# Altium integrated library Xilinx Virtex-E.IntLib: 288 symbols (part 54 of 73)
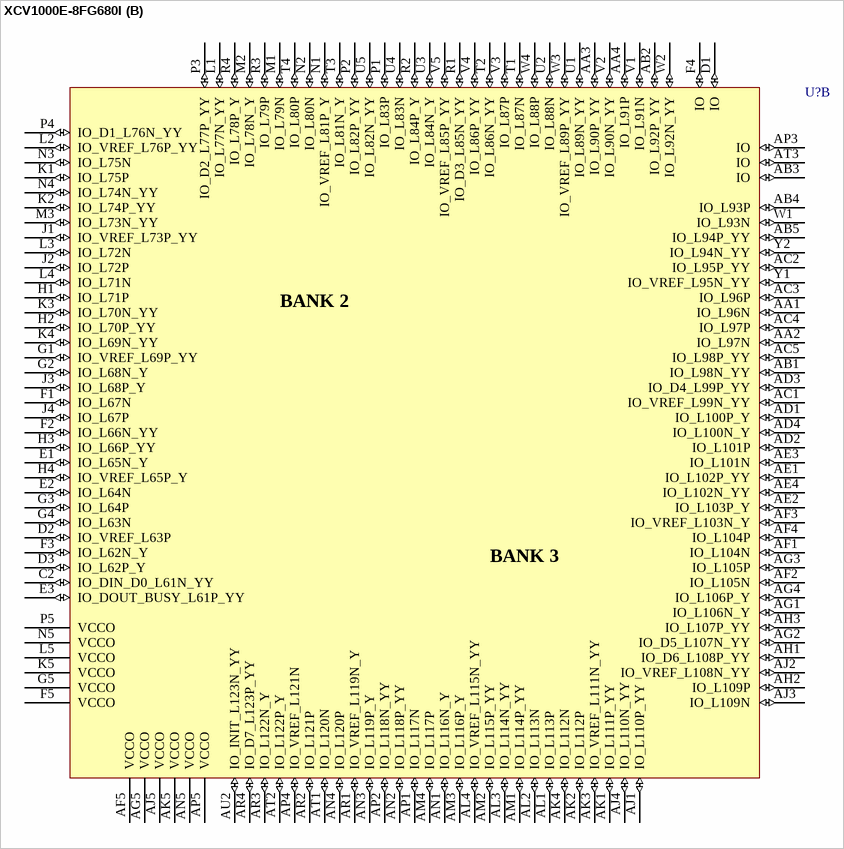
[diagram p442: symbol XCV1000E-8FG680I]

## XCV1000E-8FG680I
designator U?
Virtex-E 1.8V FPGA, 680-Ball FBGA, Industrial Grade; PackageDocument: ver1.1, Apr-2001; Note: Solder pads are defined by the copper, i.e. non-soldermask defined (NSMD); Published: 19-Sep-2001; LatestRevisionDate: 17-Jul-2002; LatestRevisionNote: Re-released for DXP Platform.; DatasheetDocument: Mar-2003; PackageReference: FG680; Publisher: Altium Limited
footprint FG680 (680-Ball Fine Pitch Ball Grid Array (FG680))
3D model XCV1000E-FG680 (680-Ball Fine Pitch Ball Grid Array (FG680))
signal-integrity model XCV1000E_FG680 (Virtex-E)
part A pins: A4 IO_L59P_Y (io), A5 IO_L57P_YY (io), A6 IO_L55P_Y (io), A7 IO_L53P_YY (io), A8 IO_L52N_YY (io), A9 IO_L50N_Y (io), A10 IO_L48N_YY (io), A11 IO_L46N_Y (io), A12 IO_L43P_Y (io), A13 IO_L41P_YY (io), A14 IO_L40N_YY (io), A15 IO_L38N_Y (io), A16 IO_L35P_Y (io), A17 IO_L33P_YY (io), A18 IO_L31P_Y (io), A19 IO_LVDS_DLL_L29P (io), A20 GCK3 (in), A21 IO_L27P_YY (io), A22 IO_L25P_Y (io), A23 IO_L23P_YY (io), A24 IO_L22N_YY (io), A25 IO_L21N_Y (io), A26 IO_VREF_L19N_YY (io), A27 IO_L16N_Y (io), A28 IO_L14P_YY (io), A29 IO_L13N_Y (io), A30 IO_L12N_Y (io), A31 IO_L10N_YY (io), A32 IO_L9N_Y (io), A33 IO_VREF_L7N_YY (io), A34 IO_L4P (io), A35 IO_L2P_YY (io), A36 IO_L0P_Y (io), B4 IO_WRITE_L60N_YY (io), B5 IO_VREF_L58P_Y (io), B6 IO_VREF_L56P_YY (io), B7 IO_L54P_Y (io), B8 IO_VREF_L52P_YY (io), B9 IO_L51N_Y (io), B10 IO_L49N_YY (io), B11 IO_L47N_Y (io), B12 IO_L45N_YY (io), B13 IO_L42P_Y (io), B14 IO_VREF_L40P_YY (io), B15 IO_L39N_Y (io), B16 IO_L37N_YY (io), B17 IO_L34P_Y (io), B18 IO_VREF_L32P_YY (io), B19 IO_L30P_Y (io), B20 IO_L28P_Y (io), B21 IO_L26P_YY (io), B22 IO_L24P_Y (io), B23 IO_L22P_YY (io), B24 IO_L24N_Y (io), B25 IO_L20N_Y (io), B26 IO_L17P_Y (io), B27 IO_L15P_Y (io), B28 IO_VREF_L14N_YY (io), B29 IO_L13P_Y (io), B30 IO_VREF_L11N_YY (io), B31 IO_L8P_Y (io), B32 IO_L8N_Y (io), B33 IO_L5P_Y (io), B34 IO_L3P_YY (io), B35 IO_L1P_Y (io), B36 IO (io), C5 IO (io), C6 IO_L58N_Y (io), C7 IO_L56N_YY (io), C8 IO_L54N_Y (io), C9 IO_L51P_Y (io), C10 IO_L49P_YY (io), C11 IO_L47P_Y (io), C12 IO_L46P_Y (io), C13 IO_L44P_YY (io), C14 IO_L43N_Y (io), C15 IO_L41N_YY (io), C16 IO_L38P_Y (io), C17 IO_L36N_YY (io), C18 IO_L33N_YY (io), C19 IO_L31N_Y (io), C21 IO_L30N_Y (io), C22 IO_LVDS_DLL_L29N (io), C23 IO_VREF_L27N_YY (io), C24 IO_VREF_L23N_YY (io), C25 IO_L20P_Y (io), C26 IO_L18P_YY (io), C27 IO_L17N_YY (io), C28 IO_L15N_YY (io), C29 IO_L12P_Y (io), C30 IO_L10P_YY (io), C31 IO_L7P_YY (io), C32 IO_L6N_YY (io), C33 IO_L4N (io), C34 IO_L2N_YY (io), C35 IO_L0N_Y (io), D5 IO_CS_L60P_YY (io), D6 IO_L59N_Y (io), D7 IO_L57N_YY (io), D8 IO_L55N_Y (io), D9 IO_L53N_YY (io), D10 IO_L50P_Y (io), D11 IO_VREF_L48P_YY (io), D13 IO_VREF_L45P_YY (io), D14 IO_L44N_YY (io), D15 IO_L42N_Y (io), D16 IO_L39P_Y (io), D17 IO_VREF_L36P_YY (io), D18 IO_L34N_Y (io), D19 IO_L32N_YY (io), D21 GCK2 (in), D22 IO (io), D23 IO_L26N_YY (io), D24 IO_L21P_Y (io), D25 IO_L19P_YY (io), D26 IO_L18N_YY (io), D27 IO_L16N_Y (io), D29 IO_L11P_YY (io), D30 IO_L9P_Y (io), D31 IO_L6P_YY (io), D32 IO_L5N_Y (io), D33 IO_VREF_L3N_YY (io), D34 IO_VREF_L1N_Y (io), D35 IO (io), E6 VCCO (power), E7 VCCO (power), E10 VCCO (power), E11 VCCO (power), E13 VCCO (power), E14 VCCO (power), E17 IO_L37P_YY (io), E18 IO_L35N_Y (io), E22 IO_L28N_Y (io), E23 IO_L25N_Y (io), E26 VCCO (power), E27 VCCO (power), E29 VCCO (power), E30 VCCO (power), E33 VCCO (power), E34 VCCO (power)
part B pins: AA1 IO_L96N (io), AA2 IO_L97N (io), AA3 IO_L90P_YY (io), AA4 IO_L91P (io), AB1 IO_L98N_YY (io), AB2 IO_L92P_YY (io), AB3 IO (io), AB4 IO_L93P (io), AB5 IO_L94P_YY (io), AC1 IO_VREF_L99N_YY (io), AC2 IO_L95P_YY (io), AC3 IO_L96P (io), AC4 IO_L97P (io), AC5 IO_L98P_YY (io), AD1 IO_L100P_Y (io), AD2 IO_L101P (io), AD3 IO_D4_L99P_YY (io), AD4 IO_L100N_Y (io), AE1 IO_L102P_YY (io), AE2 IO_L103P_Y (io), AE3 IO_L101N (io), AE4 IO_L102N_YY (io), AF1 IO_L104N (io), AF2 IO_L105N (io), AF3 IO_VREF_L103N_Y (io), AF4 IO_L104P (io), AF5 VCCO (power), AG1 IO_L106N_Y (io), AG2 IO_D5_L107N_YY (io), AG3 IO_L105P (io), AG4 IO_L106P_Y (io), AG5 VCCO (power), AH1 IO_D6_L108P_YY (io), AH2 IO_L109P (io), AH3 IO_L107P_YY (io), AJ1 IO_L110P_YY (io), AJ2 IO_VREF_L108N_YY (io), AJ3 IO_L109N (io), AJ4 IO_L110N_YY (io), AJ5 VCCO (power), AK1 IO_L111P_YY (io), AK2 IO_L112P (io), AK3 IO_VREF_L111N_YY (io), AK4 IO_L112N (io), AK5 VCCO (power), AL1 IO_L113P (io), AL2 IO_L113N (io), AL3 IO_L114N_YY (io), AL4 IO_VREF_L115N_YY (io), AM1 IO_L114P_YY (io), AM2 IO_L115P_YY (io), AM3 IO_L116P_Y (io), AM4 IO_L117P (io), AN1 IO_L116N_Y (io), AN2 IO_L118P_YY (io), AN3 IO_L119P_Y (io), AN4 IO_L120P (io), AN5 VCCO (power), AP1 IO_L117N (io), AP2 IO_L118N_YY (io), AP3 IO (io), AP4 IO_VREF_L121N (io), AP5 VCCO (power), AR1 IO_VREF_L119N_Y (io), AR2 IO_L121P (io), AR3 IO_L122N_Y (io), AR4 IO_D7_L123P_YY (io), AT1 IO_L120N (io), AT2 IO_L122P_Y (io), AT3 IO (io), AU2 IO_INIT_L123N_YY (io), C2 IO_DIN_D0_L61N_YY (io), D1 IO (io), D2 IO_VREF_L63P (io), D3 IO_L62P_Y (io), E1 IO_L65N_Y (io), E2 IO_L64N (io), E3 IO_DOUT_BUSY_L61P_YY (io), F1 IO_L67N (io), F2 IO_L66N_YY (io), F3 IO_L62N_Y (io), F4 IO (io), F5 VCCO (power), G1 IO_VREF_L69P_YY (io), G2 IO_L68N_Y (io), G3 IO_L64P (io), G4 IO_L63N (io), G5 VCCO (power), H1 IO_L71P (io), H2 IO_L70P_YY (io), H3 IO_L66P_YY (io), H4 IO_VREF_L65P_Y (io), J1 IO_VREF_L73P_YY (io), J2 IO_L72P (io), J3 IO_L68P_Y (io), J4 IO_L67P (io), K1 IO_L75P (io), K2 IO_L74P_YY (io), K3 IO_L70N_YY (io), K4 IO_L69N_YY (io), K5 VCCO (power), L1 IO_L77N_YY (io), L2 IO_VREF_L76P_YY (io), L3 IO_L72N (io), L4 IO_L71N (io), L5 VCCO (power), M1 IO_L79N (io), M2 IO_L78N_Y (io), M3 IO_L73N_YY (io), N1 IO_VREF_L81P_Y (io), N2 IO_L80N (io), N3 IO_L75N (io), N4 IO_L74N_YY (io), N5 VCCO (power), P1 IO_L83P (io), P2 IO_L82P_YY (io), P3 IO_D2_L77P_YY (io), P4 IO_D1_L76N_YY (io), P5 VCCO (power), R1 IO_D3_L85N_YY (io), R2 IO_L84P_Y (io), R3 IO_L79P (io), R4 IO_L78P_Y (io), T1 IO_L87N (io), T2 IO_L86N_YY (io), T3 IO_L81N_Y (io), T4 IO_L80P (io), U1 IO_L89N_YY (io), U2 IO_L88N (io), U3 IO_L84N_Y (io), U4 IO_L83N (io), U5 IO_L82N_YY (io), V1 IO_L91N (io), V2 IO_L90N_YY (io), V3 IO_L87P (io), V4 IO_L86P_YY (io), V5 IO_VREF_L85P_YY (io), W1 IO_L93N (io), W2 IO_L92N_YY (io), W3 IO_VREF_L89P_YY (io), W4 IO_L88P (io), Y1 IO_VREF_L95N_YY (io), Y2 IO_L94N_YY (io)
part C pins: AR6 VCCO (power), AR7 VCCO (power), AR10 VCCO (power), AR11 VCCO (power), AR13 VCCO (power), AR14 VCCO (power), AR17 IO_L146N_Y (io), AR18 IO_L149P_Y (io), AR22 IO_L156N_Y (io), AR23 IO_L160P_Y (io), AR26 VCCO (power), AR27 VCCO (power), AR29 VCCO (power), AR30 VCCO (power), AR33 VCCO (power), AR34 VCCO (power), AT6 IO_L125P_Y (io), AT7 IO_L127P_YY (io), AT8 IO_L129P_Y (io), AT9 IO_L131P_YY (io), AT10 IO_L133N_Y (io), AT11 IO_L135N_YY (io), AT13 IO_L138N_Y (io), AT14 IO_L140P_YY (io), AT15 IO_L142P_Y (io), AT16 IO_L144N_YY (io), AT17 IO_L147N_YY (io), AT18 IO_L150P_Y (io), AT19 IO_VREF_L152P_YY (io), AT21 IO_LVDS_DLL_L155P (io), AT22 IO_LVDS_DLL_L155N (io), AT23 IO_L159P_Y (io), AT24 IO_L163N_Y (io), AT25 IO_VREF_L165N_YY (io), AT26 IO_L168P_Y (io), AT27 IO_VREF_L170N_YY (io), AT29 IO_L174N_YY (io), AT30 IO_L176N_Y (io), AT31 IO_L178P_YY (io), AT32 IO_L181P_YY (io), AT33 IO_L183P_Y (io), AT34 IO (io), AU4 IO_L124P_YY (io), AU6 IO_VREF_L126P_Y (io), AU7 IO_VREF_L128P_YY (io), AU8 IO_L130P_Y (io), AU9 IO_L132N_YY (io), AU10 IO_L134N_Y (io), AU11 IO_L136N_YY (io), AU12 IO_L137N_Y (io), AU13 IO_L139N_YY (io), AU14 IO_L141P_Y (io), AU15 IO_L143P_YY (io), AU16 IO_L145N_Y (io), AU17 IO_VREF_L148P_YY (io), AU18 IO_L151P_YY (io), AU19 IO_L153P_Y (io), AU21 IO_L154P (io), AU22 GCK1 (in), AU23 IO_L158P_YY (io), AU24 IO_L162N_YY (io), AU25 IO_L164N_Y (io), AU26 IO_L167P_Y (io), AU27 IO_L169P_YY (io), AU28 IO_L171N_Y (io), AU29 IO_VREF_L173N_YY (io), AU30 IO_L175N_Y (io), AU31 IO_VREF_L177N_YY (io), AU32 IO_L180P_Y (io), AU33 IO_L182P_YY (io), AU34 IO_L184P_Y (io), AU36 IO_L184N_Y (io), AV3 IO (io), AV4 IO_L125N_Y (io), AV5 IO_L124N_YY (io), AV6 IO_L128N_YY (io), AV7 IO_L130N_Y (io), AV8 IO_VREF_L132P_YY (io), AV9 IO_L134P_Y (io), AV10 IO_VREF_L136P_YY (io), AV11 IO_L138P_Y (io), AV12 IO_L140N_YY (io), AV13 IO_L142N_Y (io), AV14 IO_VREF_L144P_YY (io), AV15 IO_L146P_Y (io), AV16 IO_L148N_YY (io), AV17 IO_L150N_Y (io), AV18 IO_L152N_YY (io), AV19 IO_L154N (io), AV20 IO_L156P_Y (io), AV21 IO_L158N_Y (io), AV22 IO_L160N_Y (io), AV23 IO_L157P_YY (io), AV24 IO_L161P_YY (io), AV25 IO_L164P_Y (io), AV26 IO_L166P_YY (io), AV27 IO_L167N_Y (io), AV28 IO_L169N_YY (io), AV29 IO_L172N_Y (io), AV30 IO_L172P_Y (io), AV31 IO_L174P_YY (io), AV32 IO_L179P_Y (io), AV33 IO_L177P_YY (io), AV34 IO_L179N_Y (io), AV35 IO_VREF_L181N_YY (io), AV36 IO_VREF_L183N_Y (io), AW4 IO_L126N_Y (io), AW5 IO_L127N_YY (io), AW6 IO_L129N_Y (io), AW7 IO_L131N_YY (io), AW8 IO_L133P_Y (io), AW9 IO_L135P_YY (io), AW10 IO_L137P_Y (io), AW11 IO_VREF_L139P_YY (io), AW12 IO_L141N_Y (io), AW13 IO_L143N_YY (io), AW14 IO_L145P_Y (io), AW15 IO_L147P_YY (io), AW16 IO_L149N_Y (io), AW17 IO_L151N_YY (io), AW18 IO_L153N_Y (io), AW19 GCK0 (in), AW20 IO (io), AW21 IO_VREF_L157N_YY (io), AW22 IO_L159N_Y (io), AW23 IO_VREF_L161N_YY (io), AW24 IO_L162P_YY (io), AW25 IO_L163P_Y (io), AW26 IO_L165P_YY (io), AW27 IO_L166N_YY (io), AW28 IO_L168N_Y (io), AW29 IO_L170P_YY (io), AW30 IO_L171P_Y (io), AW31 IO_L173P_YY (io), AW32 IO_L175P_Y (io), AW33 IO_L176P_Y (io), AW34 IO_L178N_YY (io), AW35 IO_L180N_Y (io), AW36 IO_L182N_YY (io)
part D pins: AA36 IO_L215P (io), AA37 IO_L216N_YY (io), AA38 IO_L211P (io), AA39 IO_L212P (io), AB35 IO_VREF_L213N_YY (io), AB36 IO_L214N_YY (io), AB37 IO_L215N (io), AB38 IO_L209P_YY (io), AB39 IO_L210P_YY (io), AC35 IO_L210N_YY (io), AC36 IO_L211N (io), AC37 IO_L212N (io), AC38 IO_L208N_Y (io), AC39 IO_L208P_Y (io), AD36 IO_L207P (io), AD37 IO_VREF_L209N_YY (io), AD38 IO_L206N_YY (io), AD39 IO_L207N (io), AE36 IO_L205P_Y (io), AE37 IO_L206P_YY (io), AE38 IO_L203P (io), AE39 IO_VREF_L205N_Y (io), AF35 VCCO (power), AF36 IO_L203N (io), AF37 IO_L204N (io), AF38 IO_L204P (io), AF39 IO_L202P_Y (io), AG35 VCCO (power), AG36 IO_L201N_YY (io), AG37 IO_L202N_Y (io), AG38 IO_L200P_YY (io), AG39 IO_L201P_YY (io), AH37 IO_L198P_YY (io), AH38 IO_L199P (io), AH39 IO_VREF_L200N_YY (io), AJ35 VCCO (power), AJ36 IO_L196P (io), AJ37 IO_L197P_YY (io), AJ38 IO_L198N_YY (io), AJ39 IO_L199N (io), AK35 VCCO (power), AK36 IO_L194P_YY (io), AK37 IO_L195P (io), AK38 IO_L196N (io), AK39 IO_VREF_L197N_YY (io), AL36 IO_L192P_Y (io), AL37 IO_L193P_YY (io), AL38 IO_L194N_YY (io), AL39 IO_L195N (io), AM36 IO_L191N (io), AM37 IO_L192N_Y (io), AM38 IO_L191P (io), AM39 IO_VREF_L193N_YY (io), AN35 VCCO (power), AN36 IO_VREF_L189N_Y (io), AN37 IO_L190N_YY (io), AN38 IO_L189P_Y (io), AN39 IO_L190P_YY (io), AP35 VCCO (power), AP36 IO_L186P_Y (io), AP37 IO_L187P (io), AP38 IO_L188N (io), AP39 IO_L188P (io), AR36 IO_L185N_YY (io), AR37 IO (io), AR38 IO_L186N_Y (io), AR39 IO (io), AT38 IO_L185P_YY (io), AT39 IO_VREF_L187N (io), B37 IO (io), C38 IO (io), D37 IO_L246N_Y (io), D38 IO_L245N (io), D39 IO_L244P (io), E37 IO_L246P_Y (io), E38 IO_VREF_L243P_Y (io), E39 IO_L242P_YY (io), F35 VCCO (power), F36 IO_VREF_L245P (io), F37 IO (io), F38 IO_L241P (io), F39 IO_L240P_Y (io), G35 VCCO (power), G36 IO_L244N (io), G37 IO_L243N_Y (io), G38 IO_VREF_L239P_YY (io), G39 IO_L239N_YY (io), H36 IO_L242N_YY (io), H37 IO_L241N (io), H38 IO_L238N_YY (io), H39 IO_L237N (io), J36 IO_L240N_Y (io), J37 IO_L238P_YY (io), J38 IO_L236N (io), J39 IO_L235N_YY (io), K35 VCCO (power), K36 IO_L237P (io), K37 IO_L236P (io), K38 IO_L234N_YY (io), K39 IO_L233N (io), L35 VCCO (power), L36 IO_VREF_L235P_YY (io), L37 IO_L234P_YY (io), L38 IO_L232N_YY (io), L39 IO_L230P_Y (io), M37 IO_L233P (io), M38 IO_L229P (io), M39 IO_L228P (io), N35 VCCO (power), N36 IO_VREF_L232P_YY (io), N37 IO_L231P_YY (io), N38 IO_VREF_L227P_Y (io), N39 IO_L227N_Y (io), P35 VCCO (power), P36 IO_L231N_YY (io), P37 IO_L230N_Y (io), P38 IO_L226N_YY (io), P39 IO_L225N (io), R36 IO_L229N (io), R37 IO_L228N (io), R38 IO_L224N_Y (io), R39 IO_L222P_YY (io), T36 IO_L226P_YY (io), T37 IO_L225P (io), T38 IO_L221P (io), T39 IO_L220P (io), U35 IO_L224P_Y (io), U36 IO_VREF_L223P_YY (io), U37 IO_L223N_YY (io), U38 IO_VREF_L219P_YY (io), U39 IO_L218P_YY (io), V35 IO_L222N_YY (io), V36 IO_L221N (io), V37 IO_L220N (io), V38 IO_L219N_YY (io), V39 IO_L217P (io), W36 IO_L218N_YY (io), W37 IO_L217N (io), W38 IO_L216P_YY (io), W39 IO (io), Y38 IO_L213P_YY (io), Y39 IO_L214P_YY (io)
part E pins: A1 GND (power), A2 GND (power), A3 GND (power), A37 GND (power), A38 GND (power), A39 GND (power), AA5 GND (power), AA35 GND (power), AD5 VCCINT (power), AD35 VCCINT (power), AE5 VCCINT (power), AE35 VCCINT (power), AH4 GND (power), AH5 GND (power), AH35 GND (power), AH36 GND (power), AL5 VCCINT (power), AL35 VCCINT (power), AM5 VCCINT (power), AM35 VCCINT (power), AR5 GND (power), AR8 VCCINT (power), AR9 VCCINT (power), AR12 GND (power), AR15 VCCINT (power), AR16 VCCINT (power), AR19 GND (power), AR20 GND (power), AR21 GND (power), AR24 VCCINT (power), AR25 VCCINT (power), AR28 GND (power), AR31 VCCINT (power), AR32 VCCINT (power), AR35 GND (power), AT4 GND (power), AT5 PROGRAM (in), AT12 GND (power), AT20 GND (power), AT28 GND (power), AT35 M2 (in), AT36 GND (power), AT37 M0 (in), AU1 GND (power), AU3 GND (power), AU5 DONE (io), AU20 GND (power), AU35 DXP, AU37 GND (power), AU38 M1 (in), AU39 GND (power), AV1 GND (power), AV2 GND (power), AV37 DXN, AV38 GND (power), AV39 GND (power), AW1 GND (power), AW2 GND (power), AW3 GND (power), AW37 GND (power), AW38 GND (power), AW39 GND (power), B1 GND (power), B2 GND (power), B3 TDI (in), B38 GND (power), B39 GND (power), C1 GND (power), C3 GND (power), C4 TDO (out), C20 GND (power), C36 TCK (in), C37 GND (power), C39 GND (power), D4 GND (power), D12 GND (power), D20 GND (power), D28 GND (power), D36 GND (power), E4 CCLK (io), E5 GND (power), E8 VCCINT (power), E9 VCCINT (power), E12 GND (power), E15 VCCINT (power), E16 VCCINT (power), E19 GND (power), E20 GND (power), E21 GND (power), E24 VCCINT (power), E25 VCCINT (power), E28 GND (power), E31 VCCINT (power), E32 VCCINT (power), E35 GND (power), E36 TMS (in), H5 VCCINT (power), H35 VCCINT (power), J5 VCCINT (power), J35 VCCINT (power), M4 GND (power), M5 GND (power), M35 GND (power), M36 GND (power), R5 VCCINT (power), R35 VCCINT (power), T5 VCCINT (power), T35 VCCINT (power), W5 GND (power), W35 GND (power), Y3 GND (power), Y4 GND (power), Y5 GND (power), Y35 GND (power), Y36 GND (power), Y37 GND (power)
part A text: BANK 0; BANK 1
part B text: BANK 2; BANK 3
part C text: BANK 4; BANK 5
part D text: BANK 6; BANK 7

## XCV1000E-8FG860C
designator U?
Virtex-E 1.8V FPGA, 860-Ball FBGA, Commercial Grade; PackageDocument: ver1.1, Apr-2001; Note: Solder pads are defined by the copper, i.e. non-soldermask defined (NSMD); Published: 19-Sep-2001; LatestRevisionDate: 17-Jul-2002; LatestRevisionNote: Re-released for DXP Platform.; DatasheetDocument: Mar-2003; PackageReference: FG860; Publisher: Altium Limited
footprint FG860 (860-Ball Fine Pitch Ball Grid Array (FG860))
3D model XCV1000E-FG860 (860-Ball Fine Pitch Ball Grid Array (FG860))
signal-integrity model XCV1000E_FG860 (Virtex-E)
part A pins: A5 IO_L68N_Y (io), A6 IO_VREF_L66P_Y (io), A7 IO_L66N_Y (io), A8 IO_L64N_YY (io), A9 IO_L63N_YY (io), A10 IO_L61P_Y (io), A11 IO_L60N_YY (io), A12 IO_L57P_Y (io), A13 IO_L55N_YY (io), A14 IO (io), A15 IO_L50N_Y (io), A16 IO_L47N_Y (io), A17 IO_L44P_Y (io), A18 IO_L42N_YY (io), A19 IO_L39P_Y (io), A20 IO (io), A21 IO_L36P_Y (io), A22 IO_LVDS_DLL_L34N (io), A23 IO_L31P_YY (io), A24 IO_L29N_Y (io), A25 IO_L28N_Y (io), A26 IO (io), A27 IO_L23P_YY (io), A28 IO_L20P_Y (io), A29 IO_L17P_YY (io), A30 IO_L15N_Y (io), A31 IO_L12P_YY (io), A32 IO_L10N_Y (io), A33 IO_L8N_YY (io), A34 IO_L6P_Y (io), A35 IO_VREF_L5N_YY (io), A36 IO_L4N_YY (io), A37 IO_VREF_L2N_Y (io), A38 IO_L0N_Y (io), B6 IO_WRITE_L69N_YY (io), B7 IO_L67N_Y (io), B8 IO_L65N_Y (io), B9 IO_VREF_L63P_YY (io), B10 IO_L62P_Y (io), B11 IO (io), B12 IO_L59N_YY (io), B13 IO (io), B14 IO_L54P_Y (io), B15 IO_L52N_YY (io), B16 IO_L49N_Y (io), B17 IO_L46N_YY (io), B18 IO_L43P_Y (io), B19 IO_L41N_YY (io), B20 IO_L38N_YY (io), B21 IO_L35P_Y (io), B22 GCK2 (in), B23 IO_L33N_Y (io), B24 IO_L30P_YY (io), B25 IO_L27P_YY (io), B26 IO_L25N_Y (io), B27 IO_L22P_YY (io), B28 IO_L19P_Y (io), B29 IO_L16P_YY (io), B30 IO_L14N_Y (io), B31 IO (io), B32 IO_L9P_YY (io), B33 IO_L7P_Y (io), B34 IO (io), B35 IO_L4P_YY (io), B36 IO_L3N_Y (io), B37 IO_L1N_Y (io), C4 IO_L68P_Y (io), C5 IO_L65P_Y (io), C6 IO_L62N_Y (io), C7 IO_L61N_Y (io), C8 IO (io), C9 IO_L56P_YY (io), C10 IO_L54N_Y (io), C11 IO_L51P_YY (io), C12 IO_L58P_Y (io), C13 IO_L56N_YY (io), C14 IO_L53P_Y (io), C15 IO_L51N_YY (io), C16 IO_L48N_Y (io), C17 IO_L45N_YY (io), C18 IO (io), C19 IO_L40P_Y (io), C20 IO_L37N_YY (io), C21 IO (io), C22 GCK3 (in), C23 IO_L32N_Y (io), C24 IO (io), C25 IO_L26P_YY (io), C26 IO_L24N_Y (io), C27 IO_L21P_Y (io), C28 IO_L18P_Y (io), C29 IO (io), C30 IO_L13P_YY (io), C31 IO_L11N_Y (io), C32 IO_L8P_YY (io), C33 IO_VREF_L16N_YY (io), C34 IO (io), C35 IO_L11P_Y (io), C36 IO_VREF_L9N_YY (io), C37 IO_L6N_Y (io), C38 IO_L3P_Y (io), C39 IO_L2P_Y (io), D6 IO_L67P_Y (io), D7 IO (io), D8 IO_VREF_L59P_YY (io), D9 IO_L57N_Y (io), D10 IO (io), D11 IO_VREF_L52P_YY (io), D12 IO_L49P_Y (io), D13 IO_L48P_Y (io), D14 IO_L46P_YY (io), D15 IO (io), D16 IO_L42P_YY (io), D17 IO (io), D18 IO_L39N_Y (io), D19 IO_VREF_L37P_YY (io), D20 IO_L36N_Y (io), D21 IO_L35N_Y (io), D22 IO_LVDS_DLL_L34P (io), D23 IO_L33P_Y (io), D24 IO (io), D25 IO_L30N_YY (io), D26 IO_L28P_Y (io), D27 IO_VREF_L27N_YY (io), D28 IO_L24P_Y (io), D29 IO_VREF_L23N_YY (io), D30 IO_L21N_Y (io), D31 IO_L20N_Y (io), D32 IO_L18N_Y (io), D33 IO_L15P_Y (io), D34 IO_VREF_L13N_YY (io), D35 IO_L10P_Y (io), D36 IO (io), D37 IO_L5P_YY (io), D38 IO_L0P_Y (io), D40 IO (io), E6 IO_CS_L69P_YY (io), E7 IO_L64P_YY (io), E8 IO_L60P_YY (io), E9 IO_L58N_Y (io), E10 IO_VREF_L55P_YY (io), E11 IO_L53N_Y (io), E12 IO_L50P_Y (io), E14 IO_L47P_Y (io), E15 IO_VREF_L45P_YY (io), E16 IO_L43N_Y (io), E17 IO_VREF_L41P_YY (io), E18 IO_L40N_Y (io), E19 IO_L38P_YY (io), E20 IO (io), E23 IO_L32P_Y (io), E24 IO_VREF_L31N_YY (io), E25 IO_L29P_Y (io), E26 IO (io), E27 IO_L26N_YY (io), E28 IO (io), E29 IO_L22N_YY (io), E31 IO_L19N_Y (io), E32 IO_L17N_YY (io), E33 IO_L14P_Y (io), E34 IO_L12N_YY (io), E35 IO (io), E36 IO_L7N_Y (io), E37 IO_L1P_Y (io), F7 VCCO_1 (power), F8 VCCO_1 (power), F11 VCCO_1 (power), F12 VCCO_1 (power), F14 VCCO_1 (power), F15 VCCO_1 (power), F16 IO_L44N_Y (io), F19 VCCO_1 (power), F20 VCCO_1 (power), F23 VCCO_0 (power), F24 VCCO_0 (power), F27 IO_L25P_Y (io), F28 VCCO_0 (power), F29 VCCO_0 (power), F31 VCCO_0 (power), F32 VCCO_0 (power), F35 VCCO_0 (power), F36 VCCO_0 (power)
part B pins: AA1 IO_L104P_Y (io), AA2 IO_L105N_YY (io), AA3 IO (io), AA4 IO_L105P_YY (io), AB1 IO_L107P_YY (io), AB2 IO (io), AB3 IO_L106P_Y (io), AB4 IO (io), AC1 IO_L109P_Y (io), AC2 IO (io), AC3 IO_VREF_L108N_YY (io), AC4 IO_L106N_Y (io), AC5 IO_L107N_YY (io), AC6 VCCO_3 (power), AD1 IO (io), AD2 IO_L111N_YY (io), AD3 IO_L110N_Y (io), AD4 IO_L108P_YY (io), AD5 IO_L109N_Y (io), AD6 VCCO_3 (power), AE1 IO_D4_L112P_YY (io), AE2 IO_L113P_Y (io), AE3 IO (io), AE4 IO_L110P_Y (io), AE5 IO_L111P_YY (io), AF1 IO_L114N_Y (io), AF2 IO_L115N_YY (io), AF3 IO_L116P_Y (io), AF4 IO (io), AF5 IO_VREF_L112N_YY (io), AG1 IO_L117P_Y (io), AG2 IO_L118P (io), AG3 IO_L119P_Y (io), AG4 IO_L113N_Y (io), AG5 IO_L114P_Y (io), AH1 IO_L120P_Y (io), AH2 IO_L121P_Y (io), AH3 IO_L122P_YY (io), AH4 IO_L115P_YY (io), AH5 IO (io), AH6 VCCO_3 (power), AJ1 IO_D6_L123P_YY (io), AJ2 IO (io), AJ3 IO_L124N_Y (io), AJ4 IO_VREF_L116N_Y (io), AJ5 IO_L117N_Y (io), AJ6 VCCO_3 (power), AK1 IO_L125N_YY (io), AK2 IO_L126P_YY (io), AK3 IO_L127P_Y (io), AK4 IO_L118N (io), AL1 IO (io), AL2 IO_L128N_Y (io), AL3 IO_L129N_YY (io), AL4 IO_L119N_Y (io), AL5 IO_L120N_Y (io), AL6 VCCO_3 (power), AM1 IO_L130P_YY (io), AM2 IO_L131P_Y (io), AM3 IO (io), AM4 IO_L121N_Y (io), AM5 IO_D5_L122N_YY (io), AM6 VCCO_3 (power), AN1 IO_L132N_Y (io), AN2 IO_L133N_YY (io), AN3 IO_VREF_L123N_YY (io), AN4 IO_L124P_Y (io), AN5 IO_L125P_YY (io), AP1 IO_L134P_Y (io), AP2 IO_VREF_L134N_Y (io), AP3 IO (io), AP4 IO_VREF_L126N_YY (io), AP5 IO_L127N_Y (io), AR1 IO_L135P_Y (io), AR2 IO_L136P (io), AR3 IO_L128P_Y (io), AR4 IO_L129P_YY (io), AR5 IO (io), AR6 VCCO_3 (power), AT1 IO_L136N (io), AT2 IO_VREF_L137N_Y (io), AT3 IO_VREF_L130N_YY (io), AT4 IO_L131N_Y (io), AT5 IO_L132P_Y (io), AT6 VCCO_3 (power), AU1 IO_L138P_Y (io), AU2 IO_L139P_Y (io), AU3 IO_L133P_YY (io), AU4 IO (io), AU5 IO_L138N_Y (io), AV1 IO_D7_L140P_YY (io), AV3 IO_L135N_Y (io), AV4 IO_L137P_Y (io), AW3 IO_L139N_Y (io), AW5 IO_INIT_L140N_YY (io), D2 IO_DIN_D0_L70N_YY (io), D3 IO_L72P_Y (io), E1 IO_VREF_L73P_Y (io), E2 IO_L71N_Y (io), E3 IO_L74N (io), E4 IO_L71P_Y (io), F1 IO_L75P_Y (io), F2 IO_L72N_Y (io), F3 IO_L76N_Y (io), F4 IO_L73N_Y (io), F5 IO_DOUT_BUSY_L70P_YY (io), G1 IO_VREF_L76P_Y (io), G2 IO_L74P (io), G3 IO_L78N_Y (io), G4 IO_L77P_YY (io), G5 IO_L75N_Y (io), G6 VCCO_2 (power), H1 IO_L77N_YY (io), H2 IO (io), H3 IO (io), H4 IO_VREF_L80P_YY (io), H5 IO_L79P_Y (io), H6 VCCO_2 (power), J1 IO (io), J2 IO_L78P_Y (io), J3 IO_VREF_L84P_YY (io), J4 IO_L83P_Y (io), J5 IO_L82N_Y (io), K1 IO_L80N_YY (io), K2 IO_L79N_Y (io), K3 IO_L86N_Y (io), K4 IO_L85N_YY (io), K5 IO (io), L1 IO_L82P_Y (io), L2 IO_L81P_YY (io), L3 IO_L81N_YY (io), L4 IO_L88N_YY (io), L5 IO_VREF_L87P_YY (io), L6 VCCO_2 (power), M1 IO_L84N_YY (io), M2 IO (io), M3 IO_L83N_Y (io), M4 IO_L91P_Y (io), M5 IO_L90P_Y (io), M6 VCCO_2 (power), N1 IO (io), N2 IO_L85P_YY (io), N3 IO_L86P_Y (io), N4 IO_L92P (io), P1 IO_L89P_Y (io), P2 IO_D1_L87N_YY (io), P3 IO_D2_L88P_YY (io), P4 IO_VREF_L94P_Y (io), P5 IO_L93P_Y (io), P6 VCCO_2 (power), R1 IO_L91N_Y (io), R2 IO_L89N_Y (io), R3 IO_L90N_Y (io), R4 IO_L95N_YY (io), R5 IO (io), R6 VCCO_2 (power), T1 IO_L94N_Y (io), T2 IO_L92N (io), T3 IO_L93N_Y (io), T4 IO_L97P_Y (io), T5 IO_L96N_Y (io), U1 IO (io), U2 IO_L95P_YY (io), U3 IO_L96P_Y (io), U4 IO (io), U5 IO_VREF_L98P_YY (io), V1 IO_L99P_YY (io), V2 IO_L97N_Y (io), V3 IO_D3_L98N_YY (io), V4 IO_L100N_Y (io), V5 IO_L99N_YY (io), W1 IO_L101N_Y (io), W2 IO_L100P_Y (io), W3 IO (io), W4 IO_L102N_YY (io), W5 IO_L101P_Y (io), W6 VCCO_2 (power), Y1 IO_L103P_YY (io), Y2 IO_VREF_L102P_YY (io), Y3 IO (io), Y4 IO_L104N_Y (io), Y5 IO_L103N_YY (io), Y6 VCCO_2 (power)
part C pins: AU7 VCCO_4 (power), AU8 VCCO_4 (power), AU11 VCCO_4 (power), AU12 VCCO_4 (power), AU14 VCCO_4 (power), AU15 VCCO_4 (power), AU16 IO_L167N_Y (io), AU19 VCCO_4 (power), AU20 VCCO_4 (power), AU23 VCCO_5 (power), AU24 VCCO_5 (power), AU27 IO_L186N_Y (io), AU28 VCCO_5 (power), AU29 VCCO_5 (power), AU31 VCCO_5 (power), AU32 VCCO_5 (power), AU35 VCCO_5 (power), AU36 VCCO_5 (power), AV6 IO_L141P_YY (io), AV7 IO_L146N_YY (io), AV8 IO_L149N_Y (io), AV9 IO_L152P_Y (io), AV10 IO_L155N_YY (io), AV11 IO_VREF_L158P_YY (io), AV12 IO_L160P_Y (io), AV14 IO_L163P_Y (io), AV15 IO_L165N_YY (io), AV16 IO_L168P_YY (io), AV17 IO (io), AV18 IO_L171N_Y (io), AV19 IO_L173N_YY (io), AV20 IO_L175N_Y (io), AV23 IO_L179P_YY (io), AV24 IO (io), AV25 IO_L182N_Y (io), AV26 IO_L184P_YY (io), AV27 IO_L185N_Y (io), AV28 IO_L188N_YY (io), AV29 IO_L190N_Y (io), AV31 IO_L193N_YY (io), AV32 IO_L196P_Y (io), AV33 IO_L198N_YY (io), AV34 IO (io), AV35 IO_L203P_Y (io), AV36 IO_VREF_L205N_YY (io), AW6 IO_L143P_Y (io), AW7 IO_L147N_YY (io), AW8 IO_L150P_YY (io), AW9 IO_L153N_Y (io), AW10 IO_L156N_Y (io), AW11 IO_L159P_YY (io), AW12 IO_L161P_Y (io), AW13 IO_L162P_Y (io), AW14 IO_L164P_YY (io), AW15 IO_L166N_Y (io), AW16 IO_VREF_L169P_YY (io), AW17 IO_L170N_Y (io), AW18 IO_L172P_YY (io), AW19 IO_L174N_Y (io), AW20 IO_LVDS_DLL_L176P (io), AW21 IO_LVDS_DLL_L176N (io), AW22 IO_L177N_Y (io), AW23 IO_L178N_Y (io), AW24 IO_L180P_YY (io), AW25 IO_L181N_Y (io), AW26 IO_L183P_YY (io), AW27 IO (io), AW28 IO_L187P_YY (io), AW29 IO_L189N_Y (io), AW30 IO_L191N_Y (io), AW31 IO_L192N_Y (io), AW32 IO_L195P_Y (io), AW33 IO_VREF_L197N_YY (io), AW34 IO_L200P_Y (io), AW35 IO_L202N_YY (io), AW36 IO (io), AW37 IO_L208P_Y (io), AY4 IO_L142P_Y (io), AY5 IO_L144N_Y (io), AY6 IO_L145N_Y (io), AY7 IO_L148P_Y (io), AY8 IO_L151N_YY (io), AY9 IO_L154P_YY (io), AY10 IO_L157N_Y (io), AY11 IO (io), AY12 IO (io), AY13 IO (io), AY14 IO (io), AY15 IO_L161N_Y (io), AY16 IO_L164N_YY (io), AY17 IO_L166P_Y (io), AY18 IO_L168N_YY (io), AY19 IO_L171P_Y (io), AY20 IO_VREF_L173P_YY (io), AY21 IO_L175P_Y (io), AY22 GCK1 (in), AY23 IO (io), AY24 IO_L181P_Y (io), AY25 IO_VREF_L183N_YY (io), AY26 IO_L186P_Y (io), AY27 IO_L188P_YY (io), AY28 IO_L191P_Y (io), AY29 IO_L194P_YY (io), AY30 IO_L196N_Y (io), AY31 IO (io), AY32 IO_VREF_L194N_YY (io), AY33 IO (io), AY34 IO_L199P_Y (io), AY35 IO_VREF_L201N_YY (io), AY36 IO_L204P_Y (io), AY37 IO_L206N_YY (io), AY38 IO_L209N_Y (io), AY39 IO_L210N_Y (io), BA4 IO_L141N_YY (io), BA5 IO_L142N_Y (io), BA6 IO_VREF_L144P_Y (io), BA7 IO_L146P_YY (io), BA8 IO (io), BA9 IO_L149P_Y (io), BA10 IO_L150N_YY (io), BA11 IO_L152N_Y (io), BA12 IO_L154N_YY (io), BA13 IO_L156P_Y (io), BA14 IO_L158N_YY (io), BA15 IO_L160N_Y (io), BA16 IO_L163N_Y (io), BA17 IO (io), BA18 IO_L169N_YY (io), BA19 IO (io), BA20 IO (io), BA21 IO (io), BA22 GCK0 (in), BA23 IO_VREF_L179N_YY (io), BA24 IO_L182P_Y (io), BA25 IO_L184N_YY (io), BA26 IO (io), BA27 IO_L189P_Y (io), BA28 IO_L192P_Y (io), BA29 IO (io), BA30 IO_L197P_YY (io), BA31 IO_L199N_Y (io), BA32 IO_L201P_YY (io), BA33 IO (io), BA34 IO_L204N_Y (io), BA35 IO_L206P_YY (io), BA36 IO_L207N_Y (io), BA37 IO_L209P_Y (io), BB5 IO_L143N_Y (io), BB6 IO_L145P_Y (io), BB7 IO_VREF_L147P_YY (io), BB8 IO_L148N_Y (io), BB9 IO (io), BB10 IO_VREF_L151P_YY (io), BB11 IO_L153P_Y (io), BB12 IO_VREF_L155P_YY (io), BB13 IO_L157P_Y (io), BB14 IO_L159N_YY (io), BB15 IO_L162N_Y (io), BB16 IO_VREF_L165P_YY (io), BB17 IO_L167P_Y (io), BB18 IO (io), BB19 IO_L170P_Y (io), BB20 IO_L172N_YY (io), BB21 IO_L174P_Y (io), BB22 IO_L177P_Y (io), BB23 IO_L178P_Y (io), BB24 IO_L180N_YY (io), BB25 IO (io), BB26 IO_L185P_Y (io), BB27 IO_VREF_L187N_YY (io), BB28 IO_L190P_Y (io), BB29 IO_L193P_YY (io), BB30 IO_L195N_Y (io), BB31 IO_L198P_YY (io), BB32 IO_L200N_Y (io), BB33 IO_L202P_YY (io), BB34 IO_L203N_Y (io), BB35 IO_L205P_YY (io), BB36 IO_L207P_Y (io), BB37 IO_VREF_L208N_Y (io), BB38 IO_L210P_Y (io)
part D pins: AA39 IO_L247P_Y (io), AA40 IO (io), AA41 IO_L246N_YY (io), AA42 IO (io), AB39 IO_L246P_YY (io), AB40 IO_L245N_Y (io), AB41 IO (io), AB42 IO_L244N_YY (io), AC37 VCCO_6 (power), AC38 IO_L244P_YY (io), AC39 IO_L245P_Y (io), AC40 IO_L242P_Y (io), AC41 IO_L243P_YY (io), AC42 IO (io), AD37 VCCO_6 (power), AD38 IO_VREF_L243N_YY (io), AD39 IO (io), AD40 IO_L240N_YY (io), AD41 IO_L241N_Y (io), AD42 IO_L239P_YY (io), AE38 IO_L241P_Y (io), AE39 IO_L242N_Y (io), AE40 IO (io), AE41 IO_L238P_Y (io), AE42 IO_L237N_Y (io), AF38 IO (io), AF39 IO_L240P_YY (io), AF40 IO (io), AF41 IO_L236N_YY (io), AF42 IO_VREF_L235N_Y (io), AG38 IO_L238N_Y (io), AG39 IO_VREF_L239N_YY (io), AG40 IO_L233P (io), AG41 IO_L232P_Y (io), AG42 IO_L234P_Y (io), AH37 VCCO_6 (power), AH38 IO_L236P_YY (io), AH39 IO_L237P_Y (io), AH40 IO_L230N_Y (io), AH41 IO_L230P_Y (io), AH42 IO_L231P_Y (io), AJ37 VCCO_6 (power), AJ38 IO_L234N_Y (io), AJ39 IO_L235P_Y (io), AJ40 IO (io), AJ41 IO_L228P_YY (io), AJ42 IO_L229N_YY (io), AK39 IO_L233N (io), AK40 IO_L225P_YY (io), AK41 IO_L226N_YY (io), AK42 IO_L227N_Y (io), AL37 VCCO_6 (power), AL38 IO_L231N_Y (io), AL39 IO_L232N_Y (io), AL40 IO_L223N_Y (io), AL41 IO (io), AL42 IO_L224P_Y (io), AM37 VCCO_6 (power), AM38 IO_VREF_L228N_YY (io), AM39 IO_L229P_YY (io), AM40 IO_L220P_Y (io), AM41 IO_L221P_YY (io), AM42 IO_L222N_YY (io), AN38 IO (io), AN39 IO_L226P_YY (io), AN40 IO_L227P_Y (io), AN41 IO_L219N_Y (io), AN42 IO (io), AP38 IO_L223P_Y (io), AP39 IO_L224N_Y (io), AP40 IO_VREF_L225N_YY (io), AP41 IO (io), AP42 IO_L218P_YY (io), AR37 VCCO_6 (power), AR38 IO_VREF_L221N_YY (io), AR39 IO (io), AR40 IO_L222P_YY (io), AR41 IO_L216N_Y (io), AR42 IO_VREF_L217N_Y (io), AT37 VCCO_6 (power), AT38 IO_L218N_YY (io), AT39 IO_L219P_Y (io), AT40 IO_L220N_Y (io), AT41 IO_VREF_L214N_Y (io), AT42 IO_L215N (io), AU38 IO_L214P_Y (io), AU39 IO_L216P_Y (io), AU40 IO_L217P_Y (io), AU41 IO_L212P_Y (io), AU42 IO_L213P_Y (io), AV39 IO_L213N_Y (io), AV40 IO_L215P (io), AV41 IO_L211N_YY (io), AV42 IO_L211P_YY (io), AW40 IO_L212N_Y (io), D41 IO_L280P_Y (io), E39 IO_L280N_Y (io), E40 IO_L279N_Y (io), E41 IO_L279P_Y (io), E42 IO_VREF_L278P_Y (io), F38 IO (io), F39 IO_L278N_Y (io), F40 IO_L276P_Y (io), F41 IO_L277P (io), F42 IO_L277N (io), G37 VCCO_7 (power), G38 IO_L275N_Y (io), G39 IO_L274P_YY (io), G40 IO_L273P_Y (io), G41 IO_L276N_Y (io), G42 IO_VREF_L275P_Y (io), H37 VCCO_7 (power), H38 IO_L272P_Y (io), H39 IO_VREF_L271P_YY (io), H40 IO (io), H41 IO (io), H42 IO_L274N_YY (io), J38 IO_L270N_YY (io), J39 IO_L269N_Y (io), J40 IO_L268P_Y (io), J41 IO_L273N_Y (io), J42 IO (io), K38 IO_VREF_L267P_YY (io), K39 IO (io), K40 IO_L266N_YY (io), K41 IO_L272N_Y (io), K42 IO_L271N_YY (io), L37 VCCO_7 (power), L38 IO_L265N_Y (io), L39 IO_VREF_L264P_YY (io), L40 IO_VREF_L269P_Y (io), L41 IO_L270P_YY (io), L42 IO (io), M37 VCCO_7 (power), M38 IO_L263P_YY (io), M39 IO_L262P_Y (io), M40 IO_L267N_YY (io), M41 IO_L268N_Y (io), M42 IO_L266P_YY (io), N39 IO_L261P_Y (io), N40 IO (io), N41 IO_L265P_Y (io), N42 IO_L264N_YY (io), P37 VCCO_7 (power), P38 IO_L260P_Y (io), P39 IO_L259P (io), P40 IO_L262N_Y (io), P41 IO_L263N_YY (io), P42 IO_L261N_Y (io), R37 VCCO_7 (power), R38 IO_L258P_Y (io), R39 IO_L257N_Y (io), R40 IO_L259N (io), R41 IO_L260N_Y (io), R42 IO_L258N_Y (io), T38 IO_L256P_YY (io), T39 IO_L255P_Y (io), T40 IO (io), T41 IO_L256N_YY (io), T42 IO_VREF_L257P_Y (io), U38 IO_L254P_Y (io), U39 IO_VREF_L253P_YY (io), U40 IO (io), U41 IO_L254N_Y (io), U42 IO_L255N_Y (io), V38 IO (io), V39 IO_L252N_YY (io), V40 IO_L252P_YY (io), V41 IO_L251P_Y (io), V42 IO_L253N_YY (io), W37 VCCO_7 (power), W38 IO_L251N_Y (io), W39 IO_L250P_Y (io), W40 IO_L250N_Y (io), W41 IO_VREF_L249P_YY (io), W42 IO (io), Y37 VCCO_7 (power), Y38 IO_L249N_YY (io), Y39 IO_L248P_YY (io), Y40 IO_L248N_YY (io), Y41 IO_L247N_Y (io), Y42 IO (io)
part E pins: A2 GND (power), A3 GND (power), A4 GND (power), A39 GND (power), A40 GND (power), A41 GND (power), AA5 GND (power), AA6 GND (power), AA37 GND (power), AA38 GND (power), AB5 GND (power), AB6 GND (power), AB37 GND (power), AB38 GND (power), AE6 VCCINT (power), AE37 VCCINT (power), AF6 VCCINT (power), AF37 VCCINT (power), AG6 VCCINT (power), AG37 VCCINT (power), AK5 GND (power), AK6 GND (power), AK37 GND (power), AK38 GND (power), AN6 VCCINT (power), AN37 VCCINT (power), AP6 VCCINT (power), AP37 VCCINT (power), AU6 GND (power), AU9 VCCINT (power), AU10 VCCINT (power), AU13 GND (power), AU17 VCCINT (power), AU18 VCCINT (power), AU21 GND (power), AU22 GND (power), AU25 VCCINT (power), AU26 VCCINT (power), AU30 GND (power), AU33 VCCINT (power), AU34 VCCINT (power), AU37 GND (power), AV2 PROGRAM (in), AV5 GND (power), AV13 GND (power), AV21 GND (power), AV22 GND (power), AV30 GND (power), AV37 M1 (in), AV38 GND (power), AW1 GND (power), AW2 DONE (io), AW4 GND (power), AW38 DXP, AW39 GND (power), AW41 M0 (in), AW42 GND (power), AY1 GND (power), AY2 GND (power), AY3 GND (power), AY40 GND (power), AY41 GND (power), AY42 GND (power), B1 GND (power), B2 GND (power), B3 GND (power), B4 CCLK (io), B5 TDI (in), B38 TCK (in), B39 TMS (in), B40 GND (power), B41 GND (power), B42 GND (power), BA1 GND (power), BA2 GND (power), BA3 GND (power), BA38 DXN, BA39 M2 (in), BA40 GND (power), BA41 GND (power), BA42 GND (power), BB2 GND (power), BB3 GND (power), BB4 GND (power), BB39 GND (power), BB40 GND (power), BB41 GND (power), C1 GND (power), C2 GND (power), C3 GND (power), C40 GND (power), C41 GND (power), C42 GND (power), D1 GND (power), D4 GND (power), D5 TDO (out), D39 GND (power), D42 GND (power), E5 GND (power), E13 GND (power), E21 GND (power), E22 GND (power), E30 GND (power), E38 GND (power), F6 GND (power), F9 VCCINT (power), F10 VCCINT (power), F13 GND (power), F17 VCCINT (power), F18 VCCINT (power), F21 GND (power), F22 GND (power), F25 VCCINT (power), F26 VCCINT (power), F30 GND (power), F33 VCCINT (power), F34 VCCINT (power), F37 GND (power), J6 VCCINT (power), J37 VCCINT (power), K6 VCCINT (power), K37 VCCINT (power), N5 GND (power), N6 GND (power), N37 GND (power), N38 GND (power), T6 VCCINT (power), T37 VCCINT (power), U6 VCCINT (power), U37 VCCINT (power), V6 VCCINT (power), V37 VCCINT (power)
part A text: BANK 0; BANK 1
part B text: BANK 2; BANK 3
part C text: BANK 4; BANK 5
part D text: BANK 6; BANK 7